# EAGLE library part 10_POS_5MM_PHOENIX_DEV (library Blizzard_Library)
10 Position Wire to Board Terminal Block Horizontal with Board 0.197" (5.00mm) Through Hole
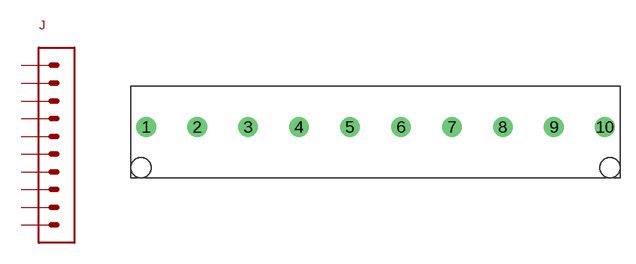
[diagram p1: symbol with the pads of 10_POS_5MM_PHOENIX_PKG; footprint 10_POS_5MM_PHOENIX_PKG]

Designator prefix J

## 10_POS_5MM_PHOENIX_DEV  [10_POS_5MM_PHOENIX_PKG]
1  P$1
2  P$2
3  P$3
4  P$4
5  P$5
6  P$6
7  P$7
8  P$8
9  P$9
10  P$10

## Footprint 10_POS_5MM_PHOENIX_PKG (pad centres in mm)
drill 1.3: 1 -22.5,0; 2 -17.5,0; 3 -12.5,0; 4 -7.5,0; 5 -2.5,0; 6 2.5,0; 7 7.5,0; 8 12.5,0; 9 17.5,0; 10 22.5,0